# EAGLE library part IAM-20380 (library LinnesLab-Sensors)
EAGLE Device for IAM-20380 gyroscope. Footprint and symbol from SnapEDA. RESV pins 9-12 and pin 15 are all tied together.
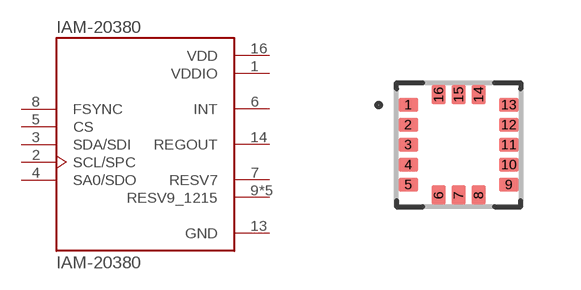
[diagram p21: symbol with the pads of IAM20380; footprint IAM20380]

Designator prefix IAM-20380

## IAM-20380  [IAM20380]
1  VDDIO  pwr
2  SCL/SPC
3  SDA/SDI  in
4  SA0/SDO  out
5  CS  in
6  INT  out
7  RESV7  pas
8  FSYNC  in
9  RESV9_1215  pas
10  RESV9_1215  pas
11  RESV9_1215  pas
12  RESV9_1215  pas
13  GND  pwr
14  REGOUT  pas
15  RESV9_1215  pas
16  VDD  pwr

## Footprint IAM20380 (pad centres in mm)
smd 0.49 x 0.35: 1 -1.26,1; 2 -1.26,0.5; 3 -1.26,0; 4 -1.26,-0.5; 5 -1.26,-1; 9 1.26,-1; 10 1.26,-0.5; 11 1.26,0; 12 1.26,0.5; 13 1.26,1
smd 0.35 x 0.49: 6 -0.5,-1.26; 7 0,-1.26; 8 0.5,-1.26; 14 0.5,1.26; 15 0,1.26; 16 -0.5,1.26